# Altium footprint library relays.PcbLib: 20 footprints (part 2 of 2)
Each footprint in its own frame and in the unit in brackets; x right, y up, seen from the top. Pads: shape width x height; smd on the part's side, far side on the other; paste and mask are expansions set on the pad; w line width, h text height; cw(c..) or ccw(c..) is an arc to the next point about the centre after c.
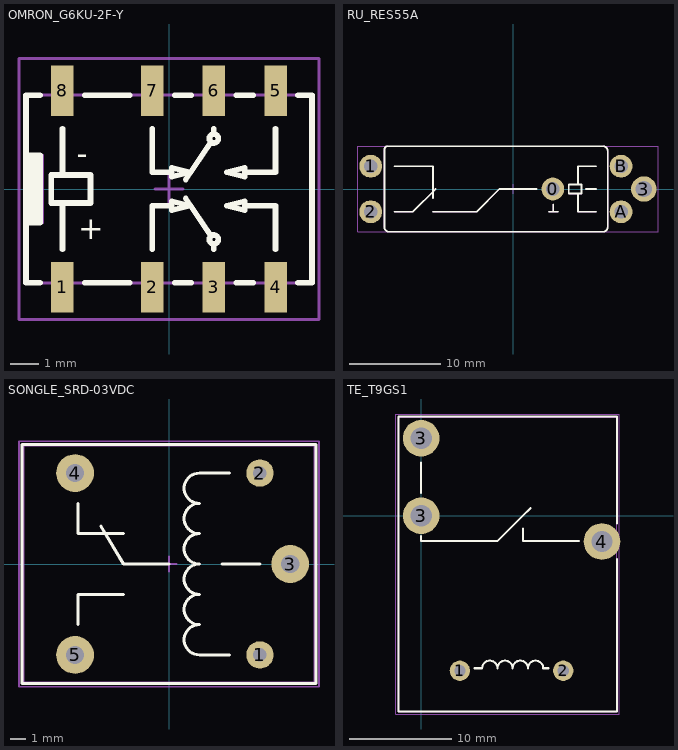
[diagram p1: the footprints below, top view; thin cyan lines are the x and y axes]

## OMRON_G6KU-2F-Y [mm] "SMD Relay,  Body 10.2mm x 6.7mm, OMRON_G6KU-2F-Y"
height 5.4
pads (8):
  rect 0.8x1.8 smd: 1(-3.8,-3.5) 2(-0.6,-3.5) 3(1.6,-3.5) 4(3.8,-3.5) 5(3.8,3.5) 6(1.6,3.5) 7(-0.6,3.5) 8(-3.8,3.5)
Top Overlay:
  circle w0.2: c1.6,-1.8 r0.159
  circle w0.2: c1.6,1.8 r0.159
  lines w0.2: -5,-1.2 -4.6,-1.2 -4.6,1.2 -5,1.2 ; -4.9,-1.2 -4.9,1.2 ; -4.8,-1.2 -4.8,1.2 ; -4.7,-1.2 -4.7,1.2 ; -4.6,-3.35 -5.1,-3.35 -5.1,3.35 -4.6,3.35 ; -3.8,-2.15 -3.8,-0.6 ; -3.8,0.6 -3.8,2.15 ; -3,-3.35 -1.4,-3.35 ; -3,3.35 -1.4,3.35 ; -0.6,-2.15 -0.6,-0.6 0.1,-0.6 ; -0.6,2.15 -0.6,0.6 0.1,0.6 ; 0.2,-3.35 0.8,-3.35 ; 0.2,3.35 0.8,3.35 ; 0.593,-0.338 1.5,-1.675 ; 0.593,0.338 1.5,1.675 ; 1.6,-2.15 1.6,-2 ; 1.6,2 1.6,2.15 ; 2.4,-3.35 3,-3.35 ; 2.4,3.35 3,3.35 ; 2.7,-0.6 3.8,-0.6 3.8,-2.15 ; 2.7,0.6 3.8,0.6 3.8,2.15 ; 4.6,-3.35 5.1,-3.35 5.1,3.35 4.6,3.35 ; -4.2,-0.5 -2.8,-0.5 -2.8,0.5 -4.2,0.5 -4.2,-0.5 ; 0.1,-0.759 0.1,-0.441 0.735,-0.6 0.1,-0.759 ; 0.1,0.441 0.735,0.6 0.1,0.759 0.1,0.441 ; 2.065,-0.6 2.7,-0.441 2.7,-0.759 2.065,-0.6 ; 2.065,0.6 2.7,0.759 2.7,0.441 2.065,0.6
  text "+" at -3.234,-1.785 h0.8
  text "-" at -3.284,0.89 h0.8
Mechanical 1:
  circle w0.1: c1.6,1.8 r0.159
  circle w0.1: c1.6,-1.8 r0.159
  lines w0.1: -5,-1.2 -4.5,-1.2 -4.5,1.2 -5,1.2 ; -4.9,-1.2 -4.9,1.2 ; -4.8,-1.2 -4.8,1.2 ; -4.7,-1.2 -4.7,1.2 ; -4.6,-1.2 -4.6,1.2 ; -3.8,-2.15 -3.8,-0.6 ; -3.8,0.6 -3.8,2.15 ; -0.6,-2.15 -0.6,-0.6 0.1,-0.6 ; -0.6,2.15 -0.6,0.6 0.1,0.6 ; 0.593,-0.338 1.5,-1.675 ; 0.593,0.338 1.5,1.675 ; 1.6,-2.15 1.6,-2 ; 1.6,2 1.6,2.15 ; 2.7,-0.6 3.8,-0.6 3.8,-2.15 ; 2.7,0.6 3.8,0.6 3.8,2.15 ; -5.1,-3.35 5.1,-3.35 5.1,3.35 -5.1,3.35 -5.1,-3.35 ; -4.2,-0.5 -2.8,-0.5 -2.8,0.5 -4.2,0.5 -4.2,-0.5 ; 0.1,-0.759 0.1,-0.441 0.735,-0.6 0.1,-0.759 ; 0.1,0.441 0.1,0.759 0.735,0.6 0.1,0.441 ; 2.065,-0.6 2.7,-0.441 2.7,-0.759 2.065,-0.6 ; 2.065,0.6 2.7,0.759 2.7,0.441 2.065,0.6
  text "-" at -3.284,0.89 h0.8
  text "+" at -3.234,-1.785 h0.8
Mechanical 15:
  lines w0.1: -0.5,0 0,0 ; 0,-0.5 0,0 ; 0,0.5 0,0 ; 0.5,0 0,0 ; -5.35,-4.65 -5.35,4.65 5.35,4.65 5.35,-4.65 -5.35,-4.65
3D body "REL_OMRON_G6KU-2F-Y.stp": height 5.4, standoff 0, extent -5.1,-3.9 5.1,3.9

## RU_RES55A [mm] "6 Leads SPDT (1 Form C) Reed Relay"
height 9.7
pads (6):
  round 2.5 hole 1.5: 0(4.35,0) 1(-15.65,2.5) 2(-15.65,-2.5) A(11.85,-2.5) B(11.85,2.5)
  round 2.8 hole 1.8: 3(14.35,0)
Top Overlay:
  lines w0.2: -13.025,-2.502 -11.025,-2.502 -8.525,-0.002 ; -13.025,2.498 -8.825,2.498 -8.825,-1.002 ; -8.825,-2.502 -4.025,-2.502 -1.525,-0.002 2.575,-0.002 ; 3.9,-2.502 4.9,-2.502 ; 4.4,-2.402 4.4,-1.7 ; 7.1,-0.6 7.1,-2.502 9.1,-2.502 ; 7.1,0.6 7.1,2.498 9.1,2.498 ; 8,-0.002 9.1,-0.002 ; -14.15,-4.2 ccw(c-13.65,-4.2) -13.65,-4.7 9.875,-4.7 ccw(c9.875,-4.2) 10.375,-4.2 10.375,4.2 ccw(c9.875,4.2) 9.875,4.7 -13.788,4.7 ccw(c-13.788,4.338) -14.15,4.338 -14.15,-4.2 ; 6.1,-0.5 7.5,-0.5 7.5,0.5 6.1,0.5 6.1,-0.5
Mechanical 1:
  lines w0.1: -13.025,-2.5 -11.025,-2.5 -8.525,0 ; -13.025,2.5 -8.825,2.5 -8.825,-1 ; -8.825,-2.5 -4.025,-2.5 -1.525,0 2.575,0 ; 3.9,-2.502 4.9,-2.502 ; 4.4,-2.402 4.4,-1.7 ; 7.1,-0.6 7.1,-2.502 9.1,-2.502 ; 7.1,0.6 7.1,2.498 9.1,2.498 ; 8,-0.002 9.1,-0.002 ; -14.15,-4.2 ccw(c-13.65,-4.2) -13.65,-4.7 9.875,-4.7 ccw(c9.875,-4.2) 10.375,-4.2 10.375,4.2 ccw(c9.875,4.2) 9.875,4.7 -13.788,4.7 ccw(c-13.788,4.338) -14.15,4.338 -14.15,-4.2 ; 6.1,-0.5 7.5,-0.5 7.5,0.5 6.1,0.5 6.1,-0.5
Mechanical 15:
  lines w0.1: -0.5,0 0,0 ; 0,-0.5 0,0 ; 0,0.5 0,0 ; 0.5,0 0,0 ; -17.05,-4.7 -17.05,4.7 15.9,4.7 15.9,-4.7 -17.05,-4.7
3D body "РЭС 55А.STEP": height 9.51, standoff -5.7, extent -16.1,-4.7 14.9,4.7

## SONGLE_SRD-03VDC [mm]
pads (5):
  round 1.8 hole 0.9: 1(6,-6) 2(6,6)
  round 2.5 hole 1.2: 3(8,0) 4(-6.2,6) 5(-6.2,-6)
Top Overlay:
  lines w0.2: -6,-4 -6,-2 -3,-2 ; -6,4 -6,2 -3,2 ; -4.5,2.5 -3,0 0,0 ; 3.5,0 6,0 ; 4,-6 2,-6 cw(c2,-5) 2,-4 cw(c2,-3) 2,-2 cw(c2,-1) 2,0 cw(c2,1) 2,2 cw(c2,3) 2,4 cw(c2,5) 2,6 4,6 ; -9.7,-7.9 -9.7,7.9 9.7,7.9 9.7,-7.9 -9.7,-7.9
Mechanical 1:
  lines w0.1: -6,-4 -6,-2 -3,-2 ; -6,4 -6,2 -3,2 ; -4.5,2.5 -3,0 0,0 ; 3.5,0 6,0 ; 4,-6 2,-6 cw(c2,-5) 2,-4 cw(c2,-3) 2,-2 cw(c2,-1) 2,0 cw(c2,1) 2,2 cw(c2,3) 2,4 cw(c2,5) 2,6 4,6 ; -9.6,-7.8 9.6,-7.8 9.6,7.8 -9.6,7.8 -9.6,-7.8
Mechanical 15:
  lines w0.1: -0.5,0 0.5,0 ; 0,-0.5 0,0.5 ; -9.9,-8.1 -9.9,8.1 9.9,8.1 9.9,-8.1 -9.9,-8.1
3D body "6666.STEP": height 15.8, standoff -3, extent -9.6,-7.8 9.6,7.8

## TE_T9GS1 [mm]
pads (5):
  round 2 hole 1.1: 1(3.81,-15.24) 2(13.97,-15.24)
  round 3.6 hole 2.1: 3(0,0) 3(0,7.62) 4(17.78,-2.54)
Top Overlay:
  lines w0.2: 0,-2 0,-2.5 7.5,-2.5 10,0 ; 0,2.25 0,5.25 ; 5.25,-15 6,-15 cw(c6.75,-15) 7.5,-15 cw(c8.25,-15) 9,-15 cw(c9.75,-15) 10.5,-15 cw(c11.25,-15) 12,-15 12.5,-15 ; 10,-1.25 10,-2.5 15.5,-2.5 ; 10.75,0.75 10,0 ; 19.25,-4.25 19.25,-19.25 -2.25,-19.25 -2.25,9.75 19.25,9.75 19.25,-0.75 ; 10,0 10,0
Mechanical 13:
  lines w0.1: -2.25,-19.3 19.25,-19.3 19.25,9.7 -2.25,9.7 -2.25,-19.3
Mechanical 15:
  lines w0.1: -2.5,-19.5 -2.5,10 19.5,10 19.5,-19.5 -2.5,-19.5
3D body "T9GS1L14-12.STEP": height 15.7, standoff -3.5, extent -2.25,-19.3 19.25,9.7